# Altium footprint library Texas Instruments Footprints.PcbLib: 429 footprints (part 18 of 32)
Each footprint in its own frame and in the unit in brackets; x right, y up, seen from the top. Pads: shape width x height; smd on the part's side, far side on the other; paste and mask are expansions set on the pad; w line width, h text height; cw(c..) or ccw(c..) is an arc to the next point about the centre after c.
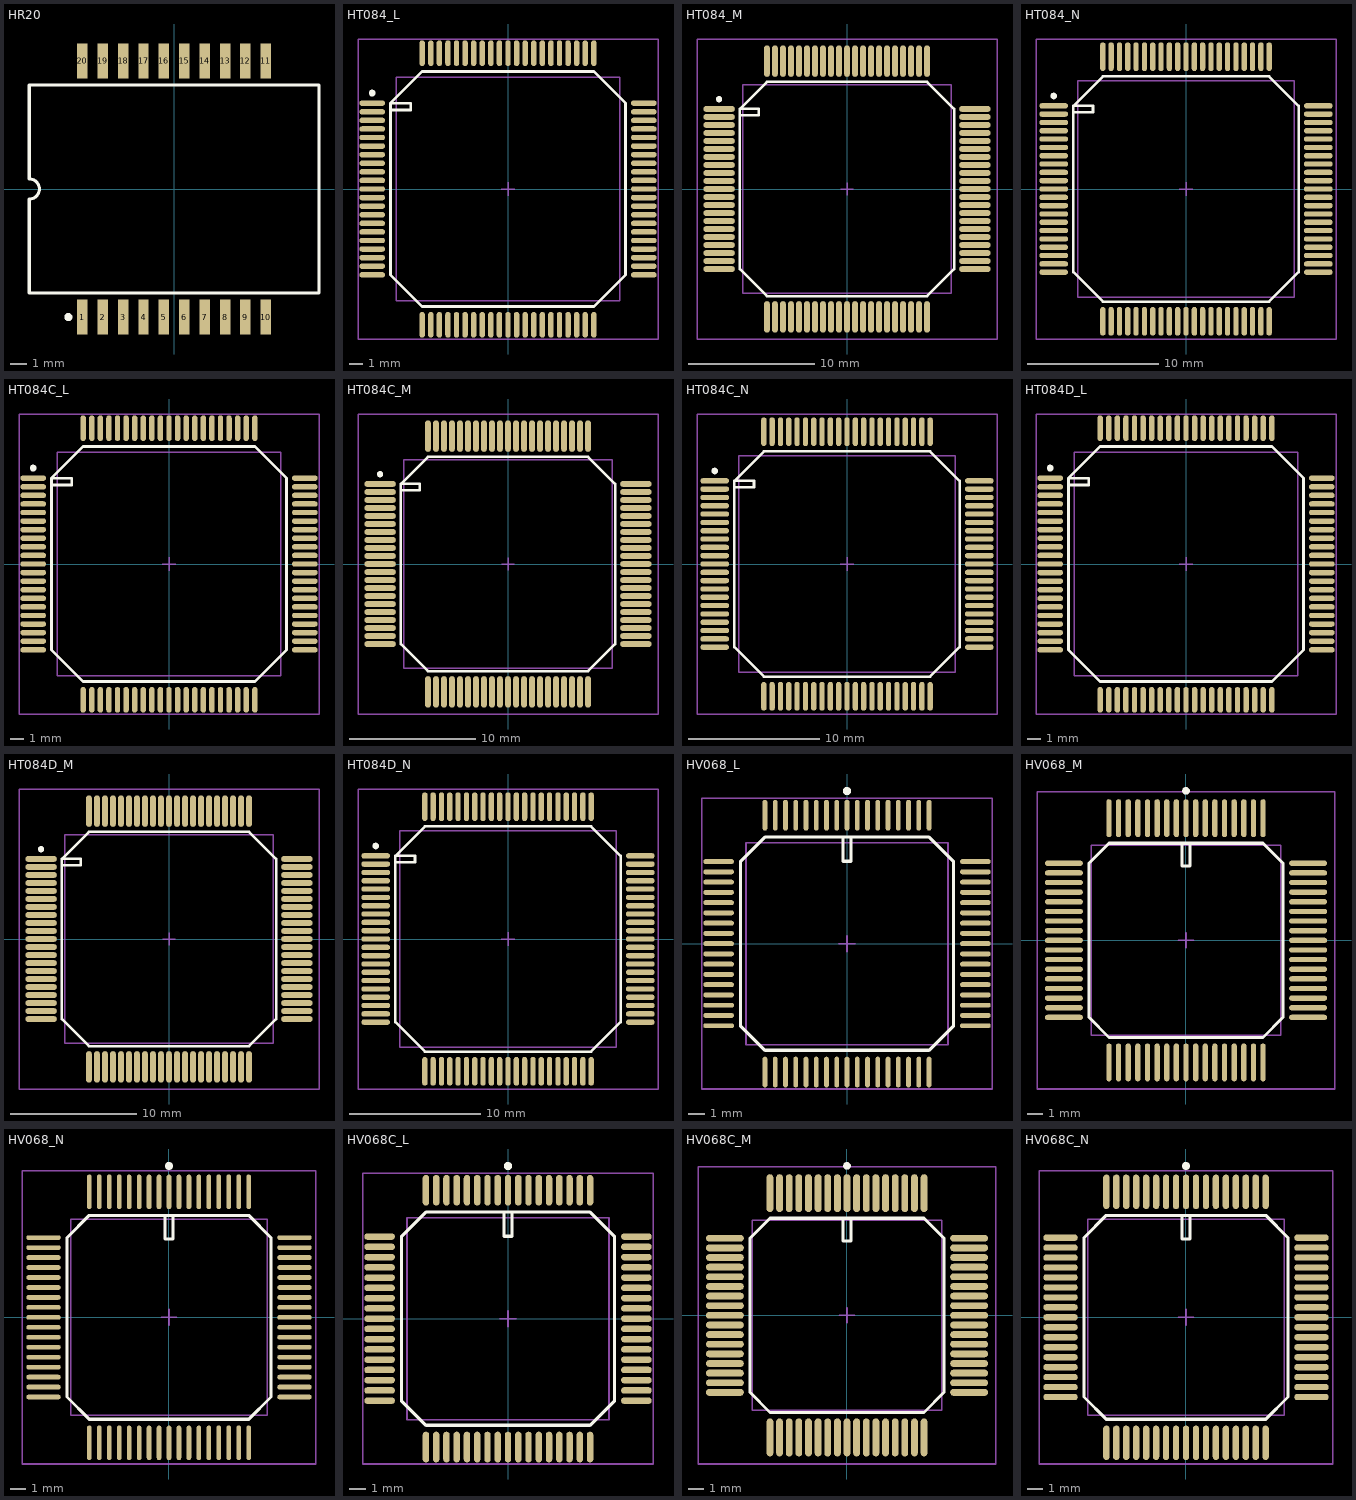
[diagram p17: the footprints below, top view; thin cyan lines are the x and y axes]

## HR20 [mm] "DFP; 20 Leads; Body 18 x 12.6 mm (LxW max); Pitch 1.27 mm"
height 2.54
pads (20):
  rect 0.65x2.2 smd: 1(-5.715,-7.975) 2(-4.445,-7.975) 3(-3.175,-7.975) 4(-1.905,-7.975) 5(-0.635,-7.975) 6(0.635,-7.975) 7(1.905,-7.975) 8(3.175,-7.975) 9(4.445,-7.975) 10(5.715,-7.975) 11(5.715,7.975) 12(4.445,7.975) 13(3.175,7.975) 14(1.905,7.975) 15(0.635,7.975) 16(-0.635,7.975) 17(-1.905,7.975) 18(-3.175,7.975) 19(-4.445,7.975) 20(-5.715,7.975)
Top Overlay:
  circle w0.25: c-6.59,-7.975 r0.125
  lines w0.2: -9.025,-6.475 9.025,-6.475 9.025,6.475 -9.025,6.475 -9.025,0.635 cw(c-9.025,0) -9.025,-0.635 -9.025,-6.475

## HT084_L [mm] "84-Pin Ceramic Quad Flat Pack 0.635 mm Pitch, IPC High Density"
height 2.7
pads (84):
  oval 1.9x0.4 smd: 1(-10.05,6.35) 2(-10.05,5.715) 3(-10.05,5.08) 4(-10.05,4.445) 5(-10.05,3.81) 6(-10.05,3.175) 7(-10.05,2.54) 8(-10.05,1.905) 9(-10.05,1.27) 10(-10.05,0.635) 11(-10.05,0) 12(-10.05,-0.635) 13(-10.05,-1.27) 14(-10.05,-1.905) 15(-10.05,-2.54) 16(-10.05,-3.175) 17(-10.05,-3.81) 18(-10.05,-4.445) 19(-10.05,-5.08) 20(-10.05,-5.715) 21(-10.05,-6.35) 43(10.05,-6.35) 44(10.05,-5.715) 45(10.05,-5.08) 46(10.05,-4.445) 47(10.05,-3.81) 48(10.05,-3.175) 49(10.05,-2.54) 50(10.05,-1.905) 51(10.05,-1.27) 52(10.05,-0.635) 53(10.05,0) 54(10.05,0.635) 55(10.05,1.27) 56(10.05,1.905) 57(10.05,2.54) 58(10.05,3.175) 59(10.05,3.81) 60(10.05,4.445) 61(10.05,5.08) 62(10.05,5.715) 63(10.05,6.35)
  oval 0.4x1.9 smd: 22(-6.35,-10.05) 23(-5.715,-10.05) 24(-5.08,-10.05) 25(-4.445,-10.05) 26(-3.81,-10.05) 27(-3.175,-10.05) 28(-2.54,-10.05) 29(-1.905,-10.05) 30(-1.27,-10.05) 31(-0.635,-10.05) 32(0,-10.05) 33(0.635,-10.05) 34(1.27,-10.05) 35(1.905,-10.05) 36(2.54,-10.05) 37(3.175,-10.05) 38(3.81,-10.05) 39(4.445,-10.05) 40(5.08,-10.05) 41(5.715,-10.05) 42(6.35,-10.05) 64(6.35,10.05) 65(5.715,10.05) 66(5.08,10.05) 67(4.445,10.05) 68(3.81,10.05) 69(3.175,10.05) 70(2.54,10.05) 71(1.905,10.05) 72(1.27,10.05) 73(0.635,10.05) 74(0,10.05) 75(-0.635,10.05) 76(-1.27,10.05) 77(-1.905,10.05) 78(-2.54,10.05) 79(-3.175,10.05) 80(-3.81,10.05) 81(-4.445,10.05) 82(-5.08,10.05) 83(-5.715,10.05) 84(-6.35,10.05)
Top Overlay:
  circle w0.25: c-10.05,7.1 r0.125
  lines w0.2: -8.7,5.85 -7.2,5.85 -7.2,6.35 -8.7,6.35 ; -8.7,6.35 -6.35,8.7 6.35,8.7 8.7,6.35 8.7,-6.35 6.35,-8.7 -6.35,-8.7 -8.7,-6.35 -8.7,6.35
Mechanical 13:
  lines w0.1: -8.255,-8.255 8.255,-8.255 8.255,8.255 -8.255,8.255 -8.255,-8.255
Mechanical 15:
  lines w0.1: -0.5,0 0.5,0 ; 0,-0.5 0,0.5 ; -11.1,-11.1 11.1,-11.1 11.1,11.1 -11.1,11.1 -11.1,-11.1
3D body: height 2.7, standoff 0, extent -8.255,-8.255 8.255,8.255

## HT084_M [mm] "84-Pin Ceramic Quad Flat Pack 0.635 mm Pitch, IPC Low Density"
height 2.7
pads (84):
  oval 2.5x0.45 smd: 1(-10.15,6.35) 2(-10.15,5.715) 3(-10.15,5.08) 4(-10.15,4.445) 5(-10.15,3.81) 6(-10.15,3.175) 7(-10.15,2.54) 8(-10.15,1.905) 9(-10.15,1.27) 10(-10.15,0.635) 11(-10.15,0) 12(-10.15,-0.635) 13(-10.15,-1.27) 14(-10.15,-1.905) 15(-10.15,-2.54) 16(-10.15,-3.175) 17(-10.15,-3.81) 18(-10.15,-4.445) 19(-10.15,-5.08) 20(-10.15,-5.715) 21(-10.15,-6.35) 43(10.15,-6.35) 44(10.15,-5.715) 45(10.15,-5.08) 46(10.15,-4.445) 47(10.15,-3.81) 48(10.15,-3.175) 49(10.15,-2.54) 50(10.15,-1.905) 51(10.15,-1.27) 52(10.15,-0.635) 53(10.15,0) 54(10.15,0.635) 55(10.15,1.27) 56(10.15,1.905) 57(10.15,2.54) 58(10.15,3.175) 59(10.15,3.81) 60(10.15,4.445) 61(10.15,5.08) 62(10.15,5.715) 63(10.15,6.35)
  oval 0.45x2.5 smd: 22(-6.35,-10.15) 23(-5.715,-10.15) 24(-5.08,-10.15) 25(-4.445,-10.15) 26(-3.81,-10.15) 27(-3.175,-10.15) 28(-2.54,-10.15) 29(-1.905,-10.15) 30(-1.27,-10.15) 31(-0.635,-10.15) 32(0,-10.15) 33(0.635,-10.15) 34(1.27,-10.15) 35(1.905,-10.15) 36(2.54,-10.15) 37(3.175,-10.15) 38(3.81,-10.15) 39(4.445,-10.15) 40(5.08,-10.15) 41(5.715,-10.15) 42(6.35,-10.15) 64(6.35,10.15) 65(5.715,10.15) 66(5.08,10.15) 67(4.445,10.15) 68(3.81,10.15) 69(3.175,10.15) 70(2.54,10.15) 71(1.905,10.15) 72(1.27,10.15) 73(0.635,10.15) 74(0,10.15) 75(-0.635,10.15) 76(-1.27,10.15) 77(-1.905,10.15) 78(-2.54,10.15) 79(-3.175,10.15) 80(-3.81,10.15) 81(-4.445,10.15) 82(-5.08,10.15) 83(-5.715,10.15) 84(-6.35,10.15)
Top Overlay:
  circle w0.25: c-10.15,7.125 r0.125
  lines w0.2: -8.5,5.85 -7,5.85 -7,6.35 -8.5,6.35 ; -8.5,6.35 -6.35,8.5 6.35,8.5 8.5,6.35 8.5,-6.35 6.35,-8.5 -6.35,-8.5 -8.5,-6.35 -8.5,6.35
Mechanical 13:
  lines w0.1: -8.255,-8.255 8.255,-8.255 8.255,8.255 -8.255,8.255 -8.255,-8.255
Mechanical 15:
  lines w0.1: -0.5,0 0.5,0 ; 0,-0.5 0,0.5 ; -11.9,-11.9 11.9,-11.9 11.9,11.9 -11.9,11.9 -11.9,-11.9
3D body: height 2.7, standoff 0, extent -8.255,-8.255 8.255,8.255

## HT084_N [mm] "84-Pin Ceramic Quad Flat Pack 0.635 mm Pitch, IPC Medium Density"
height 2.7
pads (84):
  oval 2.2x0.4 smd: 1(-10.1,6.35) 2(-10.1,5.715) 3(-10.1,5.08) 4(-10.1,4.445) 5(-10.1,3.81) 6(-10.1,3.175) 7(-10.1,2.54) 8(-10.1,1.905) 9(-10.1,1.27) 10(-10.1,0.635) 11(-10.1,0) 12(-10.1,-0.635) 13(-10.1,-1.27) 14(-10.1,-1.905) 15(-10.1,-2.54) 16(-10.1,-3.175) 17(-10.1,-3.81) 18(-10.1,-4.445) 19(-10.1,-5.08) 20(-10.1,-5.715) 21(-10.1,-6.35) 43(10.1,-6.35) 44(10.1,-5.715) 45(10.1,-5.08) 46(10.1,-4.445) 47(10.1,-3.81) 48(10.1,-3.175) 49(10.1,-2.54) 50(10.1,-1.905) 51(10.1,-1.27) 52(10.1,-0.635) 53(10.1,0) 54(10.1,0.635) 55(10.1,1.27) 56(10.1,1.905) 57(10.1,2.54) 58(10.1,3.175) 59(10.1,3.81) 60(10.1,4.445) 61(10.1,5.08) 62(10.1,5.715) 63(10.1,6.35)
  oval 0.4x2.2 smd: 22(-6.35,-10.1) 23(-5.715,-10.1) 24(-5.08,-10.1) 25(-4.445,-10.1) 26(-3.81,-10.1) 27(-3.175,-10.1) 28(-2.54,-10.1) 29(-1.905,-10.1) 30(-1.27,-10.1) 31(-0.635,-10.1) 32(0,-10.1) 33(0.635,-10.1) 34(1.27,-10.1) 35(1.905,-10.1) 36(2.54,-10.1) 37(3.175,-10.1) 38(3.81,-10.1) 39(4.445,-10.1) 40(5.08,-10.1) 41(5.715,-10.1) 42(6.35,-10.1) 64(6.35,10.1) 65(5.715,10.1) 66(5.08,10.1) 67(4.445,10.1) 68(3.81,10.1) 69(3.175,10.1) 70(2.54,10.1) 71(1.905,10.1) 72(1.27,10.1) 73(0.635,10.1) 74(0,10.1) 75(-0.635,10.1) 76(-1.27,10.1) 77(-1.905,10.1) 78(-2.54,10.1) 79(-3.175,10.1) 80(-3.81,10.1) 81(-4.445,10.1) 82(-5.08,10.1) 83(-5.715,10.1) 84(-6.35,10.1)
Top Overlay:
  circle w0.25: c-10.1,7.1 r0.125
  lines w0.2: -8.6,5.85 -7.1,5.85 -7.1,6.35 -8.6,6.35 ; -8.6,6.35 -6.35,8.6 6.35,8.6 8.6,6.35 8.6,-6.35 6.35,-8.6 -6.35,-8.6 -8.6,-6.35 -8.6,6.35
Mechanical 13:
  lines w0.1: -8.255,-8.255 8.255,-8.255 8.255,8.255 -8.255,8.255 -8.255,-8.255
Mechanical 15:
  lines w0.1: -0.5,0 0.5,0 ; 0,-0.5 0,0.5 ; -11.45,-11.45 11.45,-11.45 11.45,11.45 -11.45,11.45 -11.45,-11.45
3D body: height 2.7, standoff 0, extent -8.255,-8.255 8.255,8.255

## HT084C_L [mm] "84-Pin Ceramic Quad Flat Pack 0.635 mm Pitch, IPC High Density"
height 2.7
pads (84):
  oval 1.9x0.4 smd: 1(-10.05,6.35) 2(-10.05,5.715) 3(-10.05,5.08) 4(-10.05,4.445) 5(-10.05,3.81) 6(-10.05,3.175) 7(-10.05,2.54) 8(-10.05,1.905) 9(-10.05,1.27) 10(-10.05,0.635) 11(-10.05,0) 12(-10.05,-0.635) 13(-10.05,-1.27) 14(-10.05,-1.905) 15(-10.05,-2.54) 16(-10.05,-3.175) 17(-10.05,-3.81) 18(-10.05,-4.445) 19(-10.05,-5.08) 20(-10.05,-5.715) 21(-10.05,-6.35) 43(10.05,-6.35) 44(10.05,-5.715) 45(10.05,-5.08) 46(10.05,-4.445) 47(10.05,-3.81) 48(10.05,-3.175) 49(10.05,-2.54) 50(10.05,-1.905) 51(10.05,-1.27) 52(10.05,-0.635) 53(10.05,0) 54(10.05,0.635) 55(10.05,1.27) 56(10.05,1.905) 57(10.05,2.54) 58(10.05,3.175) 59(10.05,3.81) 60(10.05,4.445) 61(10.05,5.08) 62(10.05,5.715) 63(10.05,6.35)
  oval 0.4x1.9 smd: 22(-6.35,-10.05) 23(-5.715,-10.05) 24(-5.08,-10.05) 25(-4.445,-10.05) 26(-3.81,-10.05) 27(-3.175,-10.05) 28(-2.54,-10.05) 29(-1.905,-10.05) 30(-1.27,-10.05) 31(-0.635,-10.05) 32(0,-10.05) 33(0.635,-10.05) 34(1.27,-10.05) 35(1.905,-10.05) 36(2.54,-10.05) 37(3.175,-10.05) 38(3.81,-10.05) 39(4.445,-10.05) 40(5.08,-10.05) 41(5.715,-10.05) 42(6.35,-10.05) 64(6.35,10.05) 65(5.715,10.05) 66(5.08,10.05) 67(4.445,10.05) 68(3.81,10.05) 69(3.175,10.05) 70(2.54,10.05) 71(1.905,10.05) 72(1.27,10.05) 73(0.635,10.05) 74(0,10.05) 75(-0.635,10.05) 76(-1.27,10.05) 77(-1.905,10.05) 78(-2.54,10.05) 79(-3.175,10.05) 80(-3.81,10.05) 81(-4.445,10.05) 82(-5.08,10.05) 83(-5.715,10.05) 84(-6.35,10.05)
Top Overlay:
  circle w0.25: c-10.05,7.1 r0.125
  lines w0.2: -8.7,5.85 -7.2,5.85 -7.2,6.35 -8.7,6.35 ; -8.7,6.35 -8.7,-6.35 -6.35,-8.7 6.35,-8.7 8.7,-6.35 8.7,6.35 6.35,8.7 -6.35,8.7 -8.7,6.35
Mechanical 13:
  lines w0.1: -8.255,-8.255 -8.255,8.255 8.255,8.255 8.255,-8.255 -8.255,-8.255
Mechanical 15:
  lines w0.1: -0.5,0 0.5,0 ; 0,-0.5 0,0.5 ; -11.1,-11.1 -11.1,11.1 11.1,11.1 11.1,-11.1 -11.1,-11.1
3D body: height 2.7, standoff 0, extent -8.255,-8.255 8.255,8.255

## HT084C_M [mm] "84-Pin Ceramic Quad Flat Pack 0.635 mm Pitch, IPC Low Density"
height 2.7
pads (84):
  oval 2.5x0.45 smd: 1(-10.15,6.35) 2(-10.15,5.715) 3(-10.15,5.08) 4(-10.15,4.445) 5(-10.15,3.81) 6(-10.15,3.175) 7(-10.15,2.54) 8(-10.15,1.905) 9(-10.15,1.27) 10(-10.15,0.635) 11(-10.15,0) 12(-10.15,-0.635) 13(-10.15,-1.27) 14(-10.15,-1.905) 15(-10.15,-2.54) 16(-10.15,-3.175) 17(-10.15,-3.81) 18(-10.15,-4.445) 19(-10.15,-5.08) 20(-10.15,-5.715) 21(-10.15,-6.35) 43(10.15,-6.35) 44(10.15,-5.715) 45(10.15,-5.08) 46(10.15,-4.445) 47(10.15,-3.81) 48(10.15,-3.175) 49(10.15,-2.54) 50(10.15,-1.905) 51(10.15,-1.27) 52(10.15,-0.635) 53(10.15,0) 54(10.15,0.635) 55(10.15,1.27) 56(10.15,1.905) 57(10.15,2.54) 58(10.15,3.175) 59(10.15,3.81) 60(10.15,4.445) 61(10.15,5.08) 62(10.15,5.715) 63(10.15,6.35)
  oval 0.45x2.5 smd: 22(-6.35,-10.15) 23(-5.715,-10.15) 24(-5.08,-10.15) 25(-4.445,-10.15) 26(-3.81,-10.15) 27(-3.175,-10.15) 28(-2.54,-10.15) 29(-1.905,-10.15) 30(-1.27,-10.15) 31(-0.635,-10.15) 32(0,-10.15) 33(0.635,-10.15) 34(1.27,-10.15) 35(1.905,-10.15) 36(2.54,-10.15) 37(3.175,-10.15) 38(3.81,-10.15) 39(4.445,-10.15) 40(5.08,-10.15) 41(5.715,-10.15) 42(6.35,-10.15) 64(6.35,10.15) 65(5.715,10.15) 66(5.08,10.15) 67(4.445,10.15) 68(3.81,10.15) 69(3.175,10.15) 70(2.54,10.15) 71(1.905,10.15) 72(1.27,10.15) 73(0.635,10.15) 74(0,10.15) 75(-0.635,10.15) 76(-1.27,10.15) 77(-1.905,10.15) 78(-2.54,10.15) 79(-3.175,10.15) 80(-3.81,10.15) 81(-4.445,10.15) 82(-5.08,10.15) 83(-5.715,10.15) 84(-6.35,10.15)
Top Overlay:
  circle w0.25: c-10.15,7.125 r0.125
  lines w0.2: -8.5,5.85 -7,5.85 -7,6.35 -8.5,6.35 ; -8.5,6.35 -8.5,-6.35 -6.35,-8.5 6.35,-8.5 8.5,-6.35 8.5,6.35 6.35,8.5 -6.35,8.5 -8.5,6.35
Mechanical 13:
  lines w0.1: -8.255,-8.255 -8.255,8.255 8.255,8.255 8.255,-8.255 -8.255,-8.255
Mechanical 15:
  lines w0.1: -0.5,0 0.5,0 ; 0,-0.5 0,0.5 ; -11.9,-11.9 -11.9,11.9 11.9,11.9 11.9,-11.9 -11.9,-11.9
3D body: height 2.7, standoff 0, extent -8.255,-8.255 8.255,8.255

## HT084C_N [mm] "84-Pin Ceramic Quad Flat Pack 0.635 mm Pitch, IPC Medium Density"
height 2.7
pads (84):
  oval 2.2x0.4 smd: 1(-10.1,6.35) 2(-10.1,5.715) 3(-10.1,5.08) 4(-10.1,4.445) 5(-10.1,3.81) 6(-10.1,3.175) 7(-10.1,2.54) 8(-10.1,1.905) 9(-10.1,1.27) 10(-10.1,0.635) 11(-10.1,0) 12(-10.1,-0.635) 13(-10.1,-1.27) 14(-10.1,-1.905) 15(-10.1,-2.54) 16(-10.1,-3.175) 17(-10.1,-3.81) 18(-10.1,-4.445) 19(-10.1,-5.08) 20(-10.1,-5.715) 21(-10.1,-6.35) 43(10.1,-6.35) 44(10.1,-5.715) 45(10.1,-5.08) 46(10.1,-4.445) 47(10.1,-3.81) 48(10.1,-3.175) 49(10.1,-2.54) 50(10.1,-1.905) 51(10.1,-1.27) 52(10.1,-0.635) 53(10.1,0) 54(10.1,0.635) 55(10.1,1.27) 56(10.1,1.905) 57(10.1,2.54) 58(10.1,3.175) 59(10.1,3.81) 60(10.1,4.445) 61(10.1,5.08) 62(10.1,5.715) 63(10.1,6.35)
  oval 0.4x2.2 smd: 22(-6.35,-10.1) 23(-5.715,-10.1) 24(-5.08,-10.1) 25(-4.445,-10.1) 26(-3.81,-10.1) 27(-3.175,-10.1) 28(-2.54,-10.1) 29(-1.905,-10.1) 30(-1.27,-10.1) 31(-0.635,-10.1) 32(0,-10.1) 33(0.635,-10.1) 34(1.27,-10.1) 35(1.905,-10.1) 36(2.54,-10.1) 37(3.175,-10.1) 38(3.81,-10.1) 39(4.445,-10.1) 40(5.08,-10.1) 41(5.715,-10.1) 42(6.35,-10.1) 64(6.35,10.1) 65(5.715,10.1) 66(5.08,10.1) 67(4.445,10.1) 68(3.81,10.1) 69(3.175,10.1) 70(2.54,10.1) 71(1.905,10.1) 72(1.27,10.1) 73(0.635,10.1) 74(0,10.1) 75(-0.635,10.1) 76(-1.27,10.1) 77(-1.905,10.1) 78(-2.54,10.1) 79(-3.175,10.1) 80(-3.81,10.1) 81(-4.445,10.1) 82(-5.08,10.1) 83(-5.715,10.1) 84(-6.35,10.1)
Top Overlay:
  circle w0.25: c-10.1,7.1 r0.125
  lines w0.2: -8.6,5.85 -7.1,5.85 -7.1,6.35 -8.6,6.35 ; -8.6,6.35 -8.6,-6.35 -6.35,-8.6 6.35,-8.6 8.6,-6.35 8.6,6.35 6.35,8.6 -6.35,8.6 -8.6,6.35
Mechanical 13:
  lines w0.1: -8.255,-8.255 -8.255,8.255 8.255,8.255 8.255,-8.255 -8.255,-8.255
Mechanical 15:
  lines w0.1: -0.5,0 0.5,0 ; 0,-0.5 0,0.5 ; -11.45,-11.45 -11.45,11.45 11.45,11.45 11.45,-11.45 -11.45,-11.45
3D body: height 2.7, standoff 0, extent -8.255,-8.255 8.255,8.255

## HT084D_L [mm] "84-Pin Ceramic Quad Flat Pack 0.635 mm Pitch, IPC High Density"
height 2.7
pads (84):
  oval 1.9x0.4 smd: 1(-10.05,6.35) 2(-10.05,5.715) 3(-10.05,5.08) 4(-10.05,4.445) 5(-10.05,3.81) 6(-10.05,3.175) 7(-10.05,2.54) 8(-10.05,1.905) 9(-10.05,1.27) 10(-10.05,0.635) 11(-10.05,0) 12(-10.05,-0.635) 13(-10.05,-1.27) 14(-10.05,-1.905) 15(-10.05,-2.54) 16(-10.05,-3.175) 17(-10.05,-3.81) 18(-10.05,-4.445) 19(-10.05,-5.08) 20(-10.05,-5.715) 21(-10.05,-6.35) 43(10.05,-6.35) 44(10.05,-5.715) 45(10.05,-5.08) 46(10.05,-4.445) 47(10.05,-3.81) 48(10.05,-3.175) 49(10.05,-2.54) 50(10.05,-1.905) 51(10.05,-1.27) 52(10.05,-0.635) 53(10.05,0) 54(10.05,0.635) 55(10.05,1.27) 56(10.05,1.905) 57(10.05,2.54) 58(10.05,3.175) 59(10.05,3.81) 60(10.05,4.445) 61(10.05,5.08) 62(10.05,5.715) 63(10.05,6.35)
  oval 0.4x1.9 smd: 22(-6.35,-10.05) 23(-5.715,-10.05) 24(-5.08,-10.05) 25(-4.445,-10.05) 26(-3.81,-10.05) 27(-3.175,-10.05) 28(-2.54,-10.05) 29(-1.905,-10.05) 30(-1.27,-10.05) 31(-0.635,-10.05) 32(0,-10.05) 33(0.635,-10.05) 34(1.27,-10.05) 35(1.905,-10.05) 36(2.54,-10.05) 37(3.175,-10.05) 38(3.81,-10.05) 39(4.445,-10.05) 40(5.08,-10.05) 41(5.715,-10.05) 42(6.35,-10.05) 64(6.35,10.05) 65(5.715,10.05) 66(5.08,10.05) 67(4.445,10.05) 68(3.81,10.05) 69(3.175,10.05) 70(2.54,10.05) 71(1.905,10.05) 72(1.27,10.05) 73(0.635,10.05) 74(0,10.05) 75(-0.635,10.05) 76(-1.27,10.05) 77(-1.905,10.05) 78(-2.54,10.05) 79(-3.175,10.05) 80(-3.81,10.05) 81(-4.445,10.05) 82(-5.08,10.05) 83(-5.715,10.05) 84(-6.35,10.05)
Top Overlay:
  circle w0.25: c-10.05,7.1 r0.125
  lines w0.2: -8.7,5.85 -7.2,5.85 -7.2,6.35 -8.7,6.35 ; -8.7,6.35 -6.35,8.7 6.35,8.7 8.7,6.35 8.7,-6.35 6.35,-8.7 -6.35,-8.7 -8.7,-6.35 -8.7,6.35
Mechanical 13:
  lines w0.1: -8.255,-8.255 8.255,-8.255 8.255,8.255 -8.255,8.255 -8.255,-8.255
Mechanical 15:
  lines w0.1: -0.5,0 0.5,0 ; 0,-0.5 0,0.5 ; -11.1,-11.1 11.1,-11.1 11.1,11.1 -11.1,11.1 -11.1,-11.1
3D body: height 2.7, standoff 0, extent -8.255,-8.255 8.255,8.255

## HT084D_M [mm] "84-Pin Ceramic Quad Flat Pack 0.635 mm Pitch, IPC Low Density"
height 2.7
pads (84):
  oval 2.5x0.45 smd: 1(-10.15,6.35) 2(-10.15,5.715) 3(-10.15,5.08) 4(-10.15,4.445) 5(-10.15,3.81) 6(-10.15,3.175) 7(-10.15,2.54) 8(-10.15,1.905) 9(-10.15,1.27) 10(-10.15,0.635) 11(-10.15,0) 12(-10.15,-0.635) 13(-10.15,-1.27) 14(-10.15,-1.905) 15(-10.15,-2.54) 16(-10.15,-3.175) 17(-10.15,-3.81) 18(-10.15,-4.445) 19(-10.15,-5.08) 20(-10.15,-5.715) 21(-10.15,-6.35) 43(10.15,-6.35) 44(10.15,-5.715) 45(10.15,-5.08) 46(10.15,-4.445) 47(10.15,-3.81) 48(10.15,-3.175) 49(10.15,-2.54) 50(10.15,-1.905) 51(10.15,-1.27) 52(10.15,-0.635) 53(10.15,0) 54(10.15,0.635) 55(10.15,1.27) 56(10.15,1.905) 57(10.15,2.54) 58(10.15,3.175) 59(10.15,3.81) 60(10.15,4.445) 61(10.15,5.08) 62(10.15,5.715) 63(10.15,6.35)
  oval 0.45x2.5 smd: 22(-6.35,-10.15) 23(-5.715,-10.15) 24(-5.08,-10.15) 25(-4.445,-10.15) 26(-3.81,-10.15) 27(-3.175,-10.15) 28(-2.54,-10.15) 29(-1.905,-10.15) 30(-1.27,-10.15) 31(-0.635,-10.15) 32(0,-10.15) 33(0.635,-10.15) 34(1.27,-10.15) 35(1.905,-10.15) 36(2.54,-10.15) 37(3.175,-10.15) 38(3.81,-10.15) 39(4.445,-10.15) 40(5.08,-10.15) 41(5.715,-10.15) 42(6.35,-10.15) 64(6.35,10.15) 65(5.715,10.15) 66(5.08,10.15) 67(4.445,10.15) 68(3.81,10.15) 69(3.175,10.15) 70(2.54,10.15) 71(1.905,10.15) 72(1.27,10.15) 73(0.635,10.15) 74(0,10.15) 75(-0.635,10.15) 76(-1.27,10.15) 77(-1.905,10.15) 78(-2.54,10.15) 79(-3.175,10.15) 80(-3.81,10.15) 81(-4.445,10.15) 82(-5.08,10.15) 83(-5.715,10.15) 84(-6.35,10.15)
Top Overlay:
  circle w0.25: c-10.15,7.125 r0.125
  lines w0.2: -8.5,5.85 -7,5.85 -7,6.35 -8.5,6.35 ; -8.5,6.35 -6.35,8.5 6.35,8.5 8.5,6.35 8.5,-6.35 6.35,-8.5 -6.35,-8.5 -8.5,-6.35 -8.5,6.35
Mechanical 13:
  lines w0.1: -8.255,-8.255 8.255,-8.255 8.255,8.255 -8.255,8.255 -8.255,-8.255
Mechanical 15:
  lines w0.1: -0.5,0 0.5,0 ; 0,-0.5 0,0.5 ; -11.9,-11.9 11.9,-11.9 11.9,11.9 -11.9,11.9 -11.9,-11.9
3D body: height 2.7, standoff 0, extent -8.255,-8.255 8.255,8.255

## HT084D_N [mm] "84-Pin Ceramic Quad Flat Pack 0.635 mm Pitch, IPC Medium Density"
height 2.7
pads (84):
  oval 2.2x0.4 smd: 1(-10.1,6.35) 2(-10.1,5.715) 3(-10.1,5.08) 4(-10.1,4.445) 5(-10.1,3.81) 6(-10.1,3.175) 7(-10.1,2.54) 8(-10.1,1.905) 9(-10.1,1.27) 10(-10.1,0.635) 11(-10.1,0) 12(-10.1,-0.635) 13(-10.1,-1.27) 14(-10.1,-1.905) 15(-10.1,-2.54) 16(-10.1,-3.175) 17(-10.1,-3.81) 18(-10.1,-4.445) 19(-10.1,-5.08) 20(-10.1,-5.715) 21(-10.1,-6.35) 43(10.1,-6.35) 44(10.1,-5.715) 45(10.1,-5.08) 46(10.1,-4.445) 47(10.1,-3.81) 48(10.1,-3.175) 49(10.1,-2.54) 50(10.1,-1.905) 51(10.1,-1.27) 52(10.1,-0.635) 53(10.1,0) 54(10.1,0.635) 55(10.1,1.27) 56(10.1,1.905) 57(10.1,2.54) 58(10.1,3.175) 59(10.1,3.81) 60(10.1,4.445) 61(10.1,5.08) 62(10.1,5.715) 63(10.1,6.35)
  oval 0.4x2.2 smd: 22(-6.35,-10.1) 23(-5.715,-10.1) 24(-5.08,-10.1) 25(-4.445,-10.1) 26(-3.81,-10.1) 27(-3.175,-10.1) 28(-2.54,-10.1) 29(-1.905,-10.1) 30(-1.27,-10.1) 31(-0.635,-10.1) 32(0,-10.1) 33(0.635,-10.1) 34(1.27,-10.1) 35(1.905,-10.1) 36(2.54,-10.1) 37(3.175,-10.1) 38(3.81,-10.1) 39(4.445,-10.1) 40(5.08,-10.1) 41(5.715,-10.1) 42(6.35,-10.1) 64(6.35,10.1) 65(5.715,10.1) 66(5.08,10.1) 67(4.445,10.1) 68(3.81,10.1) 69(3.175,10.1) 70(2.54,10.1) 71(1.905,10.1) 72(1.27,10.1) 73(0.635,10.1) 74(0,10.1) 75(-0.635,10.1) 76(-1.27,10.1) 77(-1.905,10.1) 78(-2.54,10.1) 79(-3.175,10.1) 80(-3.81,10.1) 81(-4.445,10.1) 82(-5.08,10.1) 83(-5.715,10.1) 84(-6.35,10.1)
Top Overlay:
  circle w0.25: c-10.1,7.1 r0.125
  lines w0.2: -8.6,5.85 -7.1,5.85 -7.1,6.35 -8.6,6.35 ; -8.6,6.35 -6.35,8.6 6.35,8.6 8.6,6.35 8.6,-6.35 6.35,-8.6 -6.35,-8.6 -8.6,-6.35 -8.6,6.35
Mechanical 13:
  lines w0.1: -8.255,-8.255 8.255,-8.255 8.255,8.255 -8.255,8.255 -8.255,-8.255
Mechanical 15:
  lines w0.1: -0.5,0 0.5,0 ; 0,-0.5 0,0.5 ; -11.45,-11.45 11.45,-11.45 11.45,11.45 -11.45,11.45 -11.45,-11.45
3D body: height 2.7, standoff 0, extent -8.255,-8.255 8.255,8.255

## HV068_L [mm] "68-Pin Ceramic Quad Flat Pack 0.635 mm Pitch, IPC High Density"
height 4
pads (68):
  oval 0.3x1.9 smd: 1(0,7.95) 2(-0.635,7.95) 3(-1.27,7.95) 4(-1.905,7.95) 5(-2.54,7.95) 6(-3.175,7.95) 7(-3.81,7.95) 8(-4.445,7.95) 9(-5.08,7.95) 27(-5.08,-7.95) 28(-4.445,-7.95) 29(-3.81,-7.95) 30(-3.175,-7.95) 31(-2.54,-7.95) 32(-1.905,-7.95) 33(-1.27,-7.95) 34(-0.635,-7.95) 35(0,-7.95) 36(0.635,-7.95) 37(1.27,-7.95) 38(1.905,-7.95) 39(2.54,-7.95) 40(3.175,-7.95) 41(3.81,-7.95) 42(4.445,-7.95) 43(5.08,-7.95) 61(5.08,7.95) 62(4.445,7.95) 63(3.81,7.95) 64(3.175,7.95) 65(2.54,7.95) 66(1.905,7.95) 67(1.27,7.95) 68(0.635,7.95)
  oval 1.9x0.3 smd: 10(-7.95,5.08) 11(-7.95,4.445) 12(-7.95,3.81) 13(-7.95,3.175) 14(-7.95,2.54) 15(-7.95,1.905) 16(-7.95,1.27) 17(-7.95,0.635) 18(-7.95,0) 19(-7.95,-0.635) 20(-7.95,-1.27) 21(-7.95,-1.905) 22(-7.95,-2.54) 23(-7.95,-3.175) 24(-7.95,-3.81) 25(-7.95,-4.445) 26(-7.95,-5.08) 44(7.95,-5.08) 45(7.95,-4.445) 46(7.95,-3.81) 47(7.95,-3.175) 48(7.95,-2.54) 49(7.95,-1.905) 50(7.95,-1.27) 51(7.95,-0.635) 52(7.95,0) 53(7.95,0.635) 54(7.95,1.27) 55(7.95,1.905) 56(7.95,2.54) 57(7.95,3.175) 58(7.95,3.81) 59(7.95,4.445) 60(7.95,5.08)
Top Overlay:
  circle w0.25: c0,9.45 r0.125
  lines w0.2: -0.25,6.6 -0.25,5.1 0.25,5.1 0.25,6.6 ; -6.6,-5.08 -6.6,5.08 -5.08,6.6 5.08,6.6 6.6,5.08 6.6,-5.08 5.08,-6.6 -5.08,-6.6 -6.6,-5.08
Mechanical 13:
  lines w0.1: -6.255,-6.255 -6.255,6.255 6.255,6.255 6.255,-6.255 -6.255,-6.255
Mechanical 15:
  lines w0.1: -0.5,0 0.5,0 ; 0,-0.5 0,0.5 ; -9,-9 -9,9 9,9 9,-9 -9,-9
3D body: height 4, standoff 0, extent -6.255,-6.255 6.255,6.255

## HV068_M [mm] "68-Pin Ceramic Quad Flat Pack 0.635 mm Pitch, IPC Low Density"
height 4
pads (68):
  oval 0.35x2.5 smd: 1(0,8.05) 2(-0.635,8.05) 3(-1.27,8.05) 4(-1.905,8.05) 5(-2.54,8.05) 6(-3.175,8.05) 7(-3.81,8.05) 8(-4.445,8.05) 9(-5.08,8.05) 27(-5.08,-8.05) 28(-4.445,-8.05) 29(-3.81,-8.05) 30(-3.175,-8.05) 31(-2.54,-8.05) 32(-1.905,-8.05) 33(-1.27,-8.05) 34(-0.635,-8.05) 35(0,-8.05) 36(0.635,-8.05) 37(1.27,-8.05) 38(1.905,-8.05) 39(2.54,-8.05) 40(3.175,-8.05) 41(3.81,-8.05) 42(4.445,-8.05) 43(5.08,-8.05) 61(5.08,8.05) 62(4.445,8.05) 63(3.81,8.05) 64(3.175,8.05) 65(2.54,8.05) 66(1.905,8.05) 67(1.27,8.05) 68(0.635,8.05)
  oval 2.5x0.35 smd: 10(-8.05,5.08) 11(-8.05,4.445) 12(-8.05,3.81) 13(-8.05,3.175) 14(-8.05,2.54) 15(-8.05,1.905) 16(-8.05,1.27) 17(-8.05,0.635) 18(-8.05,0) 19(-8.05,-0.635) 20(-8.05,-1.27) 21(-8.05,-1.905) 22(-8.05,-2.54) 23(-8.05,-3.175) 24(-8.05,-3.81) 25(-8.05,-4.445) 26(-8.05,-5.08) 44(8.05,-5.08) 45(8.05,-4.445) 46(8.05,-3.81) 47(8.05,-3.175) 48(8.05,-2.54) 49(8.05,-1.905) 50(8.05,-1.27) 51(8.05,-0.635) 52(8.05,0) 53(8.05,0.635) 54(8.05,1.27) 55(8.05,1.905) 56(8.05,2.54) 57(8.05,3.175) 58(8.05,3.81) 59(8.05,4.445) 60(8.05,5.08)
Top Overlay:
  circle w0.25: c0,9.85 r0.125
  lines w0.2: -0.25,6.4 -0.25,4.9 0.25,4.9 0.25,6.4 ; -6.4,-5.08 -6.4,5.08 -5.08,6.4 5.08,6.4 6.4,5.08 6.4,-5.08 5.08,-6.4 -5.08,-6.4 -6.4,-5.08
Mechanical 13:
  lines w0.1: -6.255,-6.255 -6.255,6.255 6.255,6.255 6.255,-6.255 -6.255,-6.255
Mechanical 15:
  lines w0.1: -0.5,0 0.5,0 ; 0,-0.5 0,0.5 ; -9.8,-9.8 -9.8,9.8 9.8,9.8 9.8,-9.8 -9.8,-9.8
3D body: height 4, standoff 0, extent -6.255,-6.255 6.255,6.255

## HV068_N [mm] "68-Pin Ceramic Quad Flat Pack 0.635 mm Pitch, IPC Medium Density"
height 4
pads (68):
  oval 0.3x2.2 smd: 1(0,8) 2(-0.635,8) 3(-1.27,8) 4(-1.905,8) 5(-2.54,8) 6(-3.175,8) 7(-3.81,8) 8(-4.445,8) 9(-5.08,8) 27(-5.08,-8) 28(-4.445,-8) 29(-3.81,-8) 30(-3.175,-8) 31(-2.54,-8) 32(-1.905,-8) 33(-1.27,-8) 34(-0.635,-8) 35(0,-8) 36(0.635,-8) 37(1.27,-8) 38(1.905,-8) 39(2.54,-8) 40(3.175,-8) 41(3.81,-8) 42(4.445,-8) 43(5.08,-8) 61(5.08,8) 62(4.445,8) 63(3.81,8) 64(3.175,8) 65(2.54,8) 66(1.905,8) 67(1.27,8) 68(0.635,8)
  oval 2.2x0.3 smd: 10(-8,5.08) 11(-8,4.445) 12(-8,3.81) 13(-8,3.175) 14(-8,2.54) 15(-8,1.905) 16(-8,1.27) 17(-8,0.635) 18(-8,0) 19(-8,-0.635) 20(-8,-1.27) 21(-8,-1.905) 22(-8,-2.54) 23(-8,-3.175) 24(-8,-3.81) 25(-8,-4.445) 26(-8,-5.08) 44(8,-5.08) 45(8,-4.445) 46(8,-3.81) 47(8,-3.175) 48(8,-2.54) 49(8,-1.905) 50(8,-1.27) 51(8,-0.635) 52(8,0) 53(8,0.635) 54(8,1.27) 55(8,1.905) 56(8,2.54) 57(8,3.175) 58(8,3.81) 59(8,4.445) 60(8,5.08)
Top Overlay:
  circle w0.25: c0,9.65 r0.125
  lines w0.2: -0.25,6.5 -0.25,5 0.25,5 0.25,6.5 ; -6.5,-5.08 -6.5,5.08 -5.08,6.5 5.08,6.5 6.5,5.08 6.5,-5.08 5.08,-6.5 -5.08,-6.5 -6.5,-5.08
Mechanical 13:
  lines w0.1: -6.255,-6.255 -6.255,6.255 6.255,6.255 6.255,-6.255 -6.255,-6.255
Mechanical 15:
  lines w0.1: -0.5,0 0.5,0 ; 0,-0.5 0,0.5 ; -9.35,-9.35 -9.35,9.35 9.35,9.35 9.35,-9.35 -9.35,-9.35
3D body: height 4, standoff 0, extent -6.255,-6.255 6.255,6.255

## HV068C_L [mm] "68-Pin Ceramic Quad Flat Pack 0.635 mm Pitch, IPC High Density"
height 3.9
pads (68):
  oval 0.4x1.9 smd: 1(0,7.95) 2(-0.635,7.95) 3(-1.27,7.95) 4(-1.905,7.95) 5(-2.54,7.95) 6(-3.175,7.95) 7(-3.81,7.95) 8(-4.445,7.95) 9(-5.08,7.95) 27(-5.08,-7.95) 28(-4.445,-7.95) 29(-3.81,-7.95) 30(-3.175,-7.95) 31(-2.54,-7.95) 32(-1.905,-7.95) 33(-1.27,-7.95) 34(-0.635,-7.95) 35(0,-7.95) 36(0.635,-7.95) 37(1.27,-7.95) 38(1.905,-7.95) 39(2.54,-7.95) 40(3.175,-7.95) 41(3.81,-7.95) 42(4.445,-7.95) 43(5.08,-7.95) 61(5.08,7.95) 62(4.445,7.95) 63(3.81,7.95) 64(3.175,7.95) 65(2.54,7.95) 66(1.905,7.95) 67(1.27,7.95) 68(0.635,7.95)
  oval 1.9x0.4 smd: 10(-7.95,5.08) 11(-7.95,4.445) 12(-7.95,3.81) 13(-7.95,3.175) 14(-7.95,2.54) 15(-7.95,1.905) 16(-7.95,1.27) 17(-7.95,0.635) 18(-7.95,0) 19(-7.95,-0.635) 20(-7.95,-1.27) 21(-7.95,-1.905) 22(-7.95,-2.54) 23(-7.95,-3.175) 24(-7.95,-3.81) 25(-7.95,-4.445) 26(-7.95,-5.08) 44(7.95,-5.08) 45(7.95,-4.445) 46(7.95,-3.81) 47(7.95,-3.175) 48(7.95,-2.54) 49(7.95,-1.905) 50(7.95,-1.27) 51(7.95,-0.635) 52(7.95,0) 53(7.95,0.635) 54(7.95,1.27) 55(7.95,1.905) 56(7.95,2.54) 57(7.95,3.175) 58(7.95,3.81) 59(7.95,4.445) 60(7.95,5.08)
Top Overlay:
  circle w0.25: c0,9.45 r0.125
  lines w0.2: -0.25,6.6 -0.25,5.1 0.25,5.1 0.25,6.6 ; -6.6,-5.08 -5.08,-6.6 5.08,-6.6 6.6,-5.08 6.6,5.08 5.08,6.6 -5.08,6.6 -6.6,5.08 -6.6,-5.08
Mechanical 13:
  lines w0.1: -6.255,-6.255 6.255,-6.255 6.255,6.255 -6.255,6.255 -6.255,-6.255
Mechanical 15:
  lines w0.1: -0.5,0 0.5,0 ; 0,-0.5 0,0.5 ; -9,-9 9,-9 9,9 -9,9 -9,-9
3D body: height 3.9, standoff 0, extent -6.255,-6.255 6.255,6.255

## HV068C_M [mm] "68-Pin Ceramic Quad Flat Pack 0.635 mm Pitch, IPC Low Density"
height 3.9
pads (68):
  oval 0.45x2.5 smd: 1(0,8.05) 2(-0.635,8.05) 3(-1.27,8.05) 4(-1.905,8.05) 5(-2.54,8.05) 6(-3.175,8.05) 7(-3.81,8.05) 8(-4.445,8.05) 9(-5.08,8.05) 27(-5.08,-8.05) 28(-4.445,-8.05) 29(-3.81,-8.05) 30(-3.175,-8.05) 31(-2.54,-8.05) 32(-1.905,-8.05) 33(-1.27,-8.05) 34(-0.635,-8.05) 35(0,-8.05) 36(0.635,-8.05) 37(1.27,-8.05) 38(1.905,-8.05) 39(2.54,-8.05) 40(3.175,-8.05) 41(3.81,-8.05) 42(4.445,-8.05) 43(5.08,-8.05) 61(5.08,8.05) 62(4.445,8.05) 63(3.81,8.05) 64(3.175,8.05) 65(2.54,8.05) 66(1.905,8.05) 67(1.27,8.05) 68(0.635,8.05)
  oval 2.5x0.45 smd: 10(-8.05,5.08) 11(-8.05,4.445) 12(-8.05,3.81) 13(-8.05,3.175) 14(-8.05,2.54) 15(-8.05,1.905) 16(-8.05,1.27) 17(-8.05,0.635) 18(-8.05,0) 19(-8.05,-0.635) 20(-8.05,-1.27) 21(-8.05,-1.905) 22(-8.05,-2.54) 23(-8.05,-3.175) 24(-8.05,-3.81) 25(-8.05,-4.445) 26(-8.05,-5.08) 44(8.05,-5.08) 45(8.05,-4.445) 46(8.05,-3.81) 47(8.05,-3.175) 48(8.05,-2.54) 49(8.05,-1.905) 50(8.05,-1.27) 51(8.05,-0.635) 52(8.05,0) 53(8.05,0.635) 54(8.05,1.27) 55(8.05,1.905) 56(8.05,2.54) 57(8.05,3.175) 58(8.05,3.81) 59(8.05,4.445) 60(8.05,5.08)
Top Overlay:
  circle w0.25: c0,9.85 r0.125
  lines w0.2: -0.25,6.4 -0.25,4.9 0.25,4.9 0.25,6.4 ; -6.4,-5.08 -6.4,5.08 -5.08,6.4 5.08,6.4 6.4,5.08 6.4,-5.08 5.08,-6.4 -5.08,-6.4 -6.4,-5.08
Mechanical 13:
  lines w0.1: -6.255,-6.255 -6.255,6.255 6.255,6.255 6.255,-6.255 -6.255,-6.255
Mechanical 15:
  lines w0.1: -0.5,0 0.5,0 ; 0,-0.5 0,0.5 ; -9.8,-9.8 -9.8,9.8 9.8,9.8 9.8,-9.8 -9.8,-9.8
3D body: height 3.9, standoff 0, extent -6.255,-6.255 6.255,6.255

## HV068C_N [mm] "68-Pin Ceramic Quad Flat Pack 0.635 mm Pitch, IPC Medium Density"
height 3.9
pads (68):
  oval 0.4x2.2 smd: 1(0,8) 2(-0.635,8) 3(-1.27,8) 4(-1.905,8) 5(-2.54,8) 6(-3.175,8) 7(-3.81,8) 8(-4.445,8) 9(-5.08,8) 27(-5.08,-8) 28(-4.445,-8) 29(-3.81,-8) 30(-3.175,-8) 31(-2.54,-8) 32(-1.905,-8) 33(-1.27,-8) 34(-0.635,-8) 35(0,-8) 36(0.635,-8) 37(1.27,-8) 38(1.905,-8) 39(2.54,-8) 40(3.175,-8) 41(3.81,-8) 42(4.445,-8) 43(5.08,-8) 61(5.08,8) 62(4.445,8) 63(3.81,8) 64(3.175,8) 65(2.54,8) 66(1.905,8) 67(1.27,8) 68(0.635,8)
  oval 2.2x0.4 smd: 10(-8,5.08) 11(-8,4.445) 12(-8,3.81) 13(-8,3.175) 14(-8,2.54) 15(-8,1.905) 16(-8,1.27) 17(-8,0.635) 18(-8,0) 19(-8,-0.635) 20(-8,-1.27) 21(-8,-1.905) 22(-8,-2.54) 23(-8,-3.175) 24(-8,-3.81) 25(-8,-4.445) 26(-8,-5.08) 44(8,-5.08) 45(8,-4.445) 46(8,-3.81) 47(8,-3.175) 48(8,-2.54) 49(8,-1.905) 50(8,-1.27) 51(8,-0.635) 52(8,0) 53(8,0.635) 54(8,1.27) 55(8,1.905) 56(8,2.54) 57(8,3.175) 58(8,3.81) 59(8,4.445) 60(8,5.08)
Top Overlay:
  circle w0.25: c0,9.65 r0.125
  lines w0.2: -0.25,6.5 -0.25,5 0.25,5 0.25,6.5 ; -6.5,-5.08 -6.5,5.08 -5.08,6.5 5.08,6.5 6.5,5.08 6.5,-5.08 5.08,-6.5 -5.08,-6.5 -6.5,-5.08
Mechanical 13:
  lines w0.1: -6.255,-6.255 -6.255,6.255 6.255,6.255 6.255,-6.255 -6.255,-6.255
Mechanical 15:
  lines w0.1: -0.5,0 0.5,0 ; 0,-0.5 0,0.5 ; -9.35,-9.35 -9.35,9.35 9.35,9.35 9.35,-9.35 -9.35,-9.35
3D body: height 3.9, standoff 0, extent -6.255,-6.255 6.255,6.255